# Altium footprint library SparkFun-Aesthetics.PCBLIB: 74 footprints (part 5 of 5)
Each footprint in its own frame and in the unit in brackets; x right, y up, seen from the top. Pads: shape width x height; smd on the part's side, far side on the other; paste and mask are expansions set on the pad; w line width, h text height; cw(c..) or ccw(c..) is an arc to the next point about the centre after c.
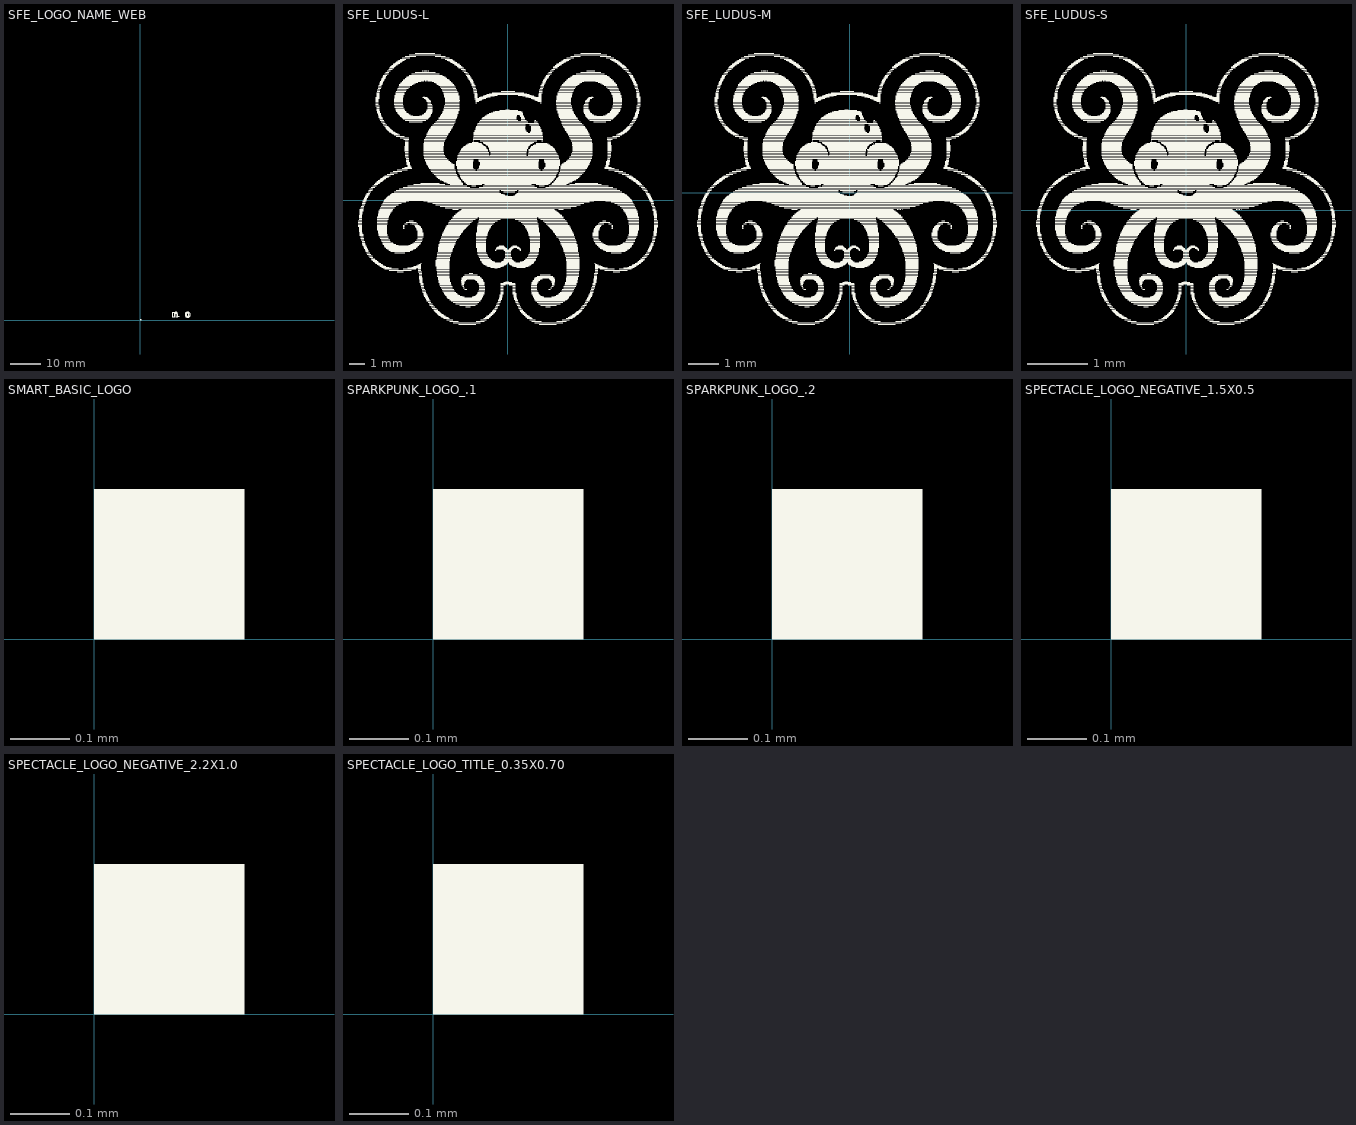
[diagram p4: the footprints below, top view; thin cyan lines are the x and y axes]

## SFE_LOGO_NAME_WEB [mm]
Top Overlay:
  rectangle: 12.426,0.945 12.921,1.43
  region: 0,0 0.254,0 0.254,0.254 0,0.254
  region: 0,0 0.254,0 0.254,0.254 0,0.254
  region: 0,0 0.254,0 0.254,0.254 0,0.254
  region: 0,0 0.254,0 0.254,0.254 0,0.254
  region: 0,0 0.254,0 0.254,0.254 0,0.254
  region: 0,0 0.254,0 0.254,0.254 0,0.254
  region: 0,0 0.254,0 0.254,0.254 0,0.254
  region: 0,0 0.254,0 0.254,0.254 0,0.254
  region: 0,0 0.254,0 0.254,0.254 0,0.254
  region: 0,0 0.254,0 0.254,0.254 0,0.254
  region: 0,0 0.254,0 0.254,0.254 0,0.254
  region: 0,0 0.254,0 0.254,0.254 0,0.254
  region: 0,0 0.254,0 0.254,0.254 0,0.254
  lines w0.076: 10.716,0.945 10.716,2.517 11.12,2.517 11.12,2.296 11.128,2.296 ccw(c11.128,2.321) 11.146,2.304 ccw(c11.038,2.407) 11.158,2.319 cw(c15.511,-0.844) 11.186,2.357 cw(c11.563,2.078) 11.273,2.446 cw(c11.589,2.045) 11.567,2.555 cw(c11.63,1.056) 11.768,2.55 cw(c11.728,2.116) 12.035,2.426 cw(c11.721,2.11) 12.149,2.233 cw(c11.332,1.998) 12.182,2.009 12.182,0.955 11.773,0.955 11.773,1.92 ccw(c11.363,1.92) 11.714,2.131 ccw(c11.52,2.014) 11.598,2.228 ccw(c11.539,2.068) 11.532,2.238 cw(c9.424,47.366) 11.42,2.233 ccw(c11.431,1.971) 11.26,2.169 ccw(c11.474,1.921) 11.168,2.04 ccw(c11.59,1.876) 11.138,1.882 ccw(c13.813,1.848) 11.138,1.814 11.138,0.945 10.716,0.945 ; 14.752,1.567 ccw(c15.583,1.704) 14.862,1.27 ccw(c15.359,1.569) 14.991,1.12 ccw(c15.553,1.805) 15.542,0.919 ccw(c15.555,2.027) 15.903,0.975 ccw(c15.692,1.613) 16.317,1.367 ccw(c15.17,1.82) 16.403,1.808 ccw(c15.605,1.816) 16.129,2.418 ccw(c15.616,1.829) 15.809,2.586 ccw(c15.586,1.707) 15.585,2.614 15.57,2.614 15.57,2.296 cw(c15.573,1.811) 15.728,2.271 cw(c15.645,2.026) 15.832,2.205 cw(c15.468,1.856) 15.959,1.971 cw(c14.932,1.73) 15.987,1.72 cw(c15.313,1.726) 15.908,1.41 cw(c15.631,1.557) 15.763,1.273 cw(c15.57,1.688) 15.428,1.252 cw(c15.529,1.564) 15.24,1.41 cw(c15.775,1.695) 15.171,1.638 cw(c16.649,1.777) 15.169,1.885 cw(c15.694,1.846) 15.278,2.169 cw(c15.527,1.976) 15.527,2.291 15.55,2.291 15.55,2.614 ccw(c15.585,1.718) 15.128,2.489 ccw(c15.529,1.813) 14.755,1.951 ccw(c15.873,1.752) 14.752,1.567

## SFE_LUDUS-L [mm]
Top Overlay:
  drawing of 2445 lines, arcs and shapes, not listed

## SFE_LUDUS-M [mm]
Top Overlay:
  drawing of 2451 lines, arcs and shapes, not listed

## SFE_LUDUS-S [mm]
Top Overlay:
  drawing of 2450 lines, arcs and shapes, not listed

## SMART_BASIC_LOGO [mm]
Top Overlay:
  region: 0,0 0.254,0 0.254,0.254 0,0.254
  region: 0,0 0.254,0 0.254,0.254 0,0.254
  region: 0,0 0.254,0 0.254,0.254 0,0.254
  region: 0,0 0.254,0 0.254,0.254 0,0.254
  region: 0,0 0.254,0 0.254,0.254 0,0.254
  region: 0,0 0.254,0 0.254,0.254 0,0.254
  region: 0,0 0.254,0 0.254,0.254 0,0.254
  region: 0,0 0.254,0 0.254,0.254 0,0.254
  region: 0,0 0.254,0 0.254,0.254 0,0.254
  region: 0,0 0.254,0 0.254,0.254 0,0.254
  region: 0,0 0.254,0 0.254,0.254 0,0.254
  region: 0,0 0.254,0 0.254,0.254 0,0.254
  region: 0,0 0.254,0 0.254,0.254 0,0.254
  region: 0,0 0.254,0 0.254,0.254 0,0.254
  region: 0,0 0.254,0 0.254,0.254 0,0.254
  region: 0,0 0.254,0 0.254,0.254 0,0.254
  region: 0,0 0.254,0 0.254,0.254 0,0.254
  region: 0,0 0.254,0 0.254,0.254 0,0.254
  region: 0,0 0.254,0 0.254,0.254 0,0.254
  region: 0,0 0.254,0 0.254,0.254 0,0.254
  region: 0,0 0.254,0 0.254,0.254 0,0.254

## SPARKPUNK_LOGO_.1 [mm]
Top Overlay:
  region: 0,0 0.254,0 0.254,0.254 0,0.254
  region: 0,0 0.254,0 0.254,0.254 0,0.254
  region: 0,0 0.254,0 0.254,0.254 0,0.254
  region: 0,0 0.254,0 0.254,0.254 0,0.254
  region: 0,0 0.254,0 0.254,0.254 0,0.254
  region: 0,0 0.254,0 0.254,0.254 0,0.254
  region: 0,0 0.254,0 0.254,0.254 0,0.254
  region: 0,0 0.254,0 0.254,0.254 0,0.254
  region: 0,0 0.254,0 0.254,0.254 0,0.254
  region: 0,0 0.254,0 0.254,0.254 0,0.254
  region: 0,0 0.254,0 0.254,0.254 0,0.254
  region: 0,0 0.254,0 0.254,0.254 0,0.254
  region: 0,0 0.254,0 0.254,0.254 0,0.254
  region: 0,0 0.254,0 0.254,0.254 0,0.254
  region: 0,0 0.254,0 0.254,0.254 0,0.254
  region: 0,0 0.254,0 0.254,0.254 0,0.254
  region: 0,0 0.254,0 0.254,0.254 0,0.254

## SPARKPUNK_LOGO_.2 [mm]
Top Overlay:
  region: 0,0 0.254,0 0.254,0.254 0,0.254
  region: 0,0 0.254,0 0.254,0.254 0,0.254
  region: 0,0 0.254,0 0.254,0.254 0,0.254
  region: 0,0 0.254,0 0.254,0.254 0,0.254
  region: 0,0 0.254,0 0.254,0.254 0,0.254
  region: 0,0 0.254,0 0.254,0.254 0,0.254
  region: 0,0 0.254,0 0.254,0.254 0,0.254
  region: 0,0 0.254,0 0.254,0.254 0,0.254
  region: 0,0 0.254,0 0.254,0.254 0,0.254
  region: 0,0 0.254,0 0.254,0.254 0,0.254
  region: 0,0 0.254,0 0.254,0.254 0,0.254
  region: 0,0 0.254,0 0.254,0.254 0,0.254
  region: 0,0 0.254,0 0.254,0.254 0,0.254
  region: 0,0 0.254,0 0.254,0.254 0,0.254
  region: 0,0 0.254,0 0.254,0.254 0,0.254
  region: 0,0 0.254,0 0.254,0.254 0,0.254
  region: 0,0 0.254,0 0.254,0.254 0,0.254

## SPECTACLE_LOGO_NEGATIVE_1.5X0.5 [mm]
Top Overlay:
  region: 0,0 0.254,0 0.254,0.254 0,0.254
  region: 0,0 0.254,0 0.254,0.254 0,0.254
  region: 0,0 0.254,0 0.254,0.254 0,0.254
  region: 0,0 0.254,0 0.254,0.254 0,0.254
  region: 0,0 0.254,0 0.254,0.254 0,0.254
  region: 0,0 0.254,0 0.254,0.254 0,0.254
  region: 0,0 0.254,0 0.254,0.254 0,0.254

## SPECTACLE_LOGO_NEGATIVE_2.2X1.0 [mm]
Top Overlay:
  region: 0,0 0.254,0 0.254,0.254 0,0.254
  region: 0,0 0.254,0 0.254,0.254 0,0.254
  region: 0,0 0.254,0 0.254,0.254 0,0.254
  region: 0,0 0.254,0 0.254,0.254 0,0.254
  region: 0,0 0.254,0 0.254,0.254 0,0.254
  region: 0,0 0.254,0 0.254,0.254 0,0.254
  region: 0,0 0.254,0 0.254,0.254 0,0.254

## SPECTACLE_LOGO_TITLE_0.35X0.70 [mm]
Top Overlay:
  region: 0,0 0.254,0 0.254,0.254 0,0.254
  region: 0,0 0.254,0 0.254,0.254 0,0.254
  region: 0,0 0.254,0 0.254,0.254 0,0.254
  region: 0,0 0.254,0 0.254,0.254 0,0.254
  region: 0,0 0.254,0 0.254,0.254 0,0.254
  region: 0,0 0.254,0 0.254,0.254 0,0.254
  region: 0,0 0.254,0 0.254,0.254 0,0.254
  region: 0,0 0.254,0 0.254,0.254 0,0.254
  region: 0,0 0.254,0 0.254,0.254 0,0.254
  region: 0,0 0.254,0 0.254,0.254 0,0.254
  region: 0,0 0.254,0 0.254,0.254 0,0.254
  region: 0,0 0.254,0 0.254,0.254 0,0.254
  region: 0,0 0.254,0 0.254,0.254 0,0.254
  region: 0,0 0.254,0 0.254,0.254 0,0.254